# Altium footprint library breakout_board.PcbLib: 29 footprints (part 1 of 2)
Each footprint in its own frame and in the unit in brackets; x right, y up, seen from the top. Pads: shape width x height; smd on the part's side, far side on the other; paste and mask are expansions set on the pad; w line width, h text height; cw(c..) or ccw(c..) is an arc to the next point about the centre after c.
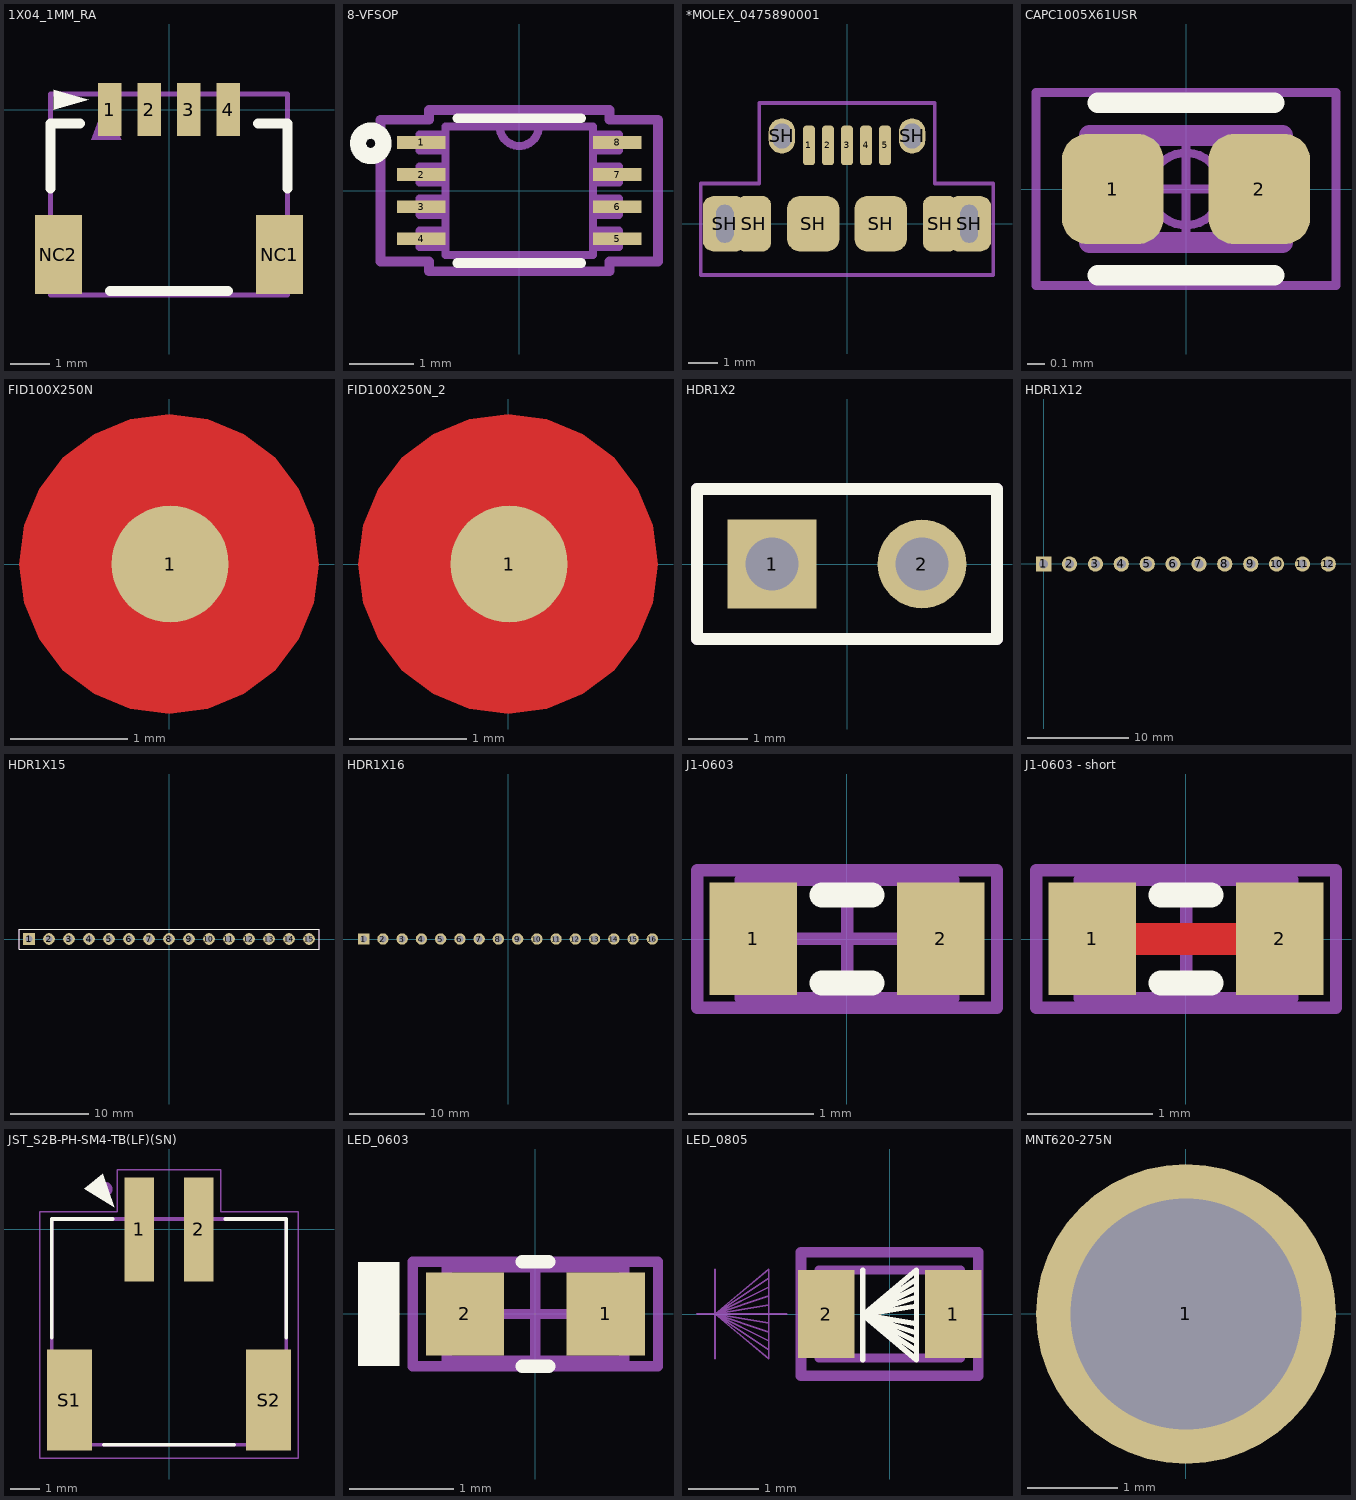
[diagram p0: the footprints below, top view; thin cyan lines are the x and y axes]

## 1X04_1MM_RA [mm] "1X04_1MM_RA"
pads (6):
  rect 0.6x1.35 smd: 1(-1.5,0) 2(-0.5,0) 3(0.5,0) 4(1.5,0)
  rect 1.2x2 smd: NC1(2.8,-3.675) NC2(-2.8,-3.675)
Top Overlay:
  region: -2.032,0.254 -2.921,0.508 -2.921,0
  lines w0.254: -3,-2 -3,-0.35 -2.25,-0.35 ; -1.5,-4.6 1.5,-4.6 ; 2.25,-0.35 3,-0.35 3,-2
Mechanical 16:
  region: -1.587,0.254 -1.968,-0.762 -1.206,-0.762
  lines w0.127: -3,-4.7 3,-4.7 3,0.4 -3,0.4 -3,-4.7
  text ".Designator" at -0.389,-2.52 h1.02
3D body "SM04B-SRSS-TB(LF)(SN)--3DModel-STEP-56544.STEP": height 3.25, standoff 0.3, extent -3,-4.615 3,0.335

## 8-VFSOP [mm]
pads (8):
  rect 0.756x0.199 smd paste+0 mask+0: 1(-1.528,0.75) 2(-1.528,0.25) 3(-1.528,-0.25) 4(-1.528,-0.75) 5(1.528,-0.75) 6(1.528,-0.25) 7(1.528,0.25) 8(1.528,0.75)
Top Overlay:
  circle w0.254: c-2.311,0.737 r0.198
  lines w0.152: -0.966,-1.127 0.966,-1.127 ; -0.966,1.127 0.966,1.127
Mechanical 15:
  lines w0.152: -2.16,-1.104 -1.404,-1.104 -1.404,-1.254 1.404,-1.254 1.404,-1.104 2.16,-1.104 2.16,1.104 1.404,1.104 1.404,1.254 -1.404,1.254 -1.404,1.104 -2.16,1.104 -2.16,-1.104
Mechanical 16:
  lines w0.127: -0.305,1 ccw(c0,1) 0.305,1 ; -1.55,-0.875 -1.15,-0.875 -1.15,-0.625 -1.55,-0.625 -1.55,-0.875 ; -1.55,-0.375 -1.15,-0.375 -1.15,-0.125 -1.55,-0.125 -1.55,-0.375 ; -1.55,0.125 -1.15,0.125 -1.15,0.375 -1.55,0.375 -1.55,0.125 ; -1.55,0.625 -1.15,0.625 -1.15,0.875 -1.55,0.875 -1.55,0.625 ; -1.15,-1 -1.15,1 1.15,1 1.15,-1 -1.15,-1 ; 1.15,-0.875 1.55,-0.875 1.55,-0.625 1.15,-0.625 1.15,-0.875 ; 1.15,-0.375 1.55,-0.375 1.55,-0.125 1.15,-0.125 1.15,-0.375 ; 1.15,0.125 1.55,0.125 1.55,0.375 1.15,0.375 1.15,0.125 ; 1.15,0.625 1.55,0.625 1.55,0.875 1.15,0.875 1.15,0.625
  text ".Designator" at -0.345,-0.488 h1.52
3D body "US8_z90.stp": height 0.75, standoff 0, extent -1.55,-1 1.55,1

## *MOLEX_0475890001 [mm]
pads (13):
  rrect50% 0.4x1.35 smd mask+0.051: 1(-1.3,2.675) 2(-0.65,2.675) 3(0,2.675) 4(0.65,2.675) 5(1.3,2.675)
  rrect50% 1.5x1.9 hole 0.6 slot 1.3 at 90 deg: SH(-4.175,0) SH(4.175,0)
  rrect50% 1.175x1.9 smd: SH(-3.187,0) SH(3.187,0)
  oval 0.9x1.2 hole 0.65 slot 0.85 at 90 deg: SH(-2.225,3) SH(2.225,3)
  rrect50% 1.8x1.9 smd: SH(-1.15,0) SH(1.15,0)
Mechanical 16:
  lines w0.127: -5,-1.75 -5,1.375 -3,1.375 -3,4.125 3,4.125 3,1.375 5,1.375 5,-1.75 -5,-1.75
  text ".Designator" at -1.524,-0.33 h1.5
3D body "475890001.stp": height 2.74, standoff -0.57, extent -4.325,-2.719 4.325,3.175

## CAPC1005X61USR [mm] "Capacitor, Chip; 1.016 mm L X 0.508 mm W X 0.61 mm H body"
height 0.61
pads (2):
  rrect51% 0.59x0.64 smd: 1(-0.425,0) 2(0.425,0)
Top Overlay:
  lines w0.12: -0.51,-0.5 0.51,-0.5 ; -0.51,0.5 0.51,0.5
Mechanical 15:
  circle w0.05: c0,0 r0.21
  lines w0.05: -0.28,0 0.28,0 ; 0,-0.28 0,0.28 ; -0.87,-0.56 0.87,-0.56 0.87,0.56 -0.87,0.56 -0.87,-0.56
Mechanical 16:
  lines w0.12: -0.56,-0.31 0.56,-0.31 0.56,0.31 -0.56,0.31 -0.56,-0.31
  text ".Designator" at 0.911,-0.474 h1.52
3D body "CAPC1005X61USR.STEP": height 0.61, standoff 0, extent -0.508,-0.254 0.508,0.254

## FID100X250N [mm]
pads (1):
  round 1 smd paste-0.5 mask+0.75: 1(0.01,0)
Top Layer:
  pour cut-out: 1.281,0 1.237,0.332 1.109,0.64 0.906,0.906 0.64,1.109 0.332,1.237 0,1.281 -0.332,1.237 -0.64,1.109 -0.906,0.906 -1.109,0.64 -1.237,0.332 -1.281,0 -1.237,-0.332 -1.109,-0.64 -0.906,-0.906 -0.64,-1.109 -0.332,-1.237 0,-1.281 0.332,-1.237 0.64,-1.109 0.906,-0.906 1.109,-0.64 1.237,-0.332

## FID100X250N_2 [mm]
pads (1):
  round 1 smd paste-0.5 mask+0.75: 1(0.01,0)
Top Layer:
  pour cut-out: 1.281,0 1.237,0.332 1.109,0.64 0.906,0.906 0.64,1.109 0.332,1.237 0,1.281 -0.332,1.237 -0.64,1.109 -0.906,0.906 -1.109,0.64 -1.237,0.332 -1.281,0 -1.237,-0.332 -1.109,-0.64 -0.906,-0.906 -0.64,-1.109 -0.332,-1.237 0,-1.281 0.332,-1.237 0.64,-1.109 0.906,-0.906 1.109,-0.64 1.237,-0.332

## HDR1X2 [mm] "Connector; Header; 2 Position"
pads (2):
  rect 1.5x1.5 hole 0.9: 1(-1.27,0)
  round 1.5 hole 0.9: 2(1.27,0)
Top Overlay:
  lines w0.2: -2.54,-1.27 2.54,-1.27 2.54,1.27 -2.54,1.27 -2.54,-1.27
Mechanical 16:
  lines w0.2: -2.54,-1.27 -2.54,1.27 2.54,1.27 2.54,-1.27 -2.54,-1.27
  text ".Designator" at -1.428,-0.38 h1.27
3D body "Download_STP_61300211121 (rev1).stp": height 8.57, standoff -2.97, extent -2.514,-1.321 2.566,1.219

## HDR1X12 [mm] "Connector; Header; 12 Position"
pads (12):
  rect 1.5x1.5 hole 0.9: 1(0,0)
  round 1.5 hole 0.9: 2(2.54,0) 3(5.08,0) 4(7.62,0) 5(10.16,0) 6(12.7,0) 7(15.24,0) 8(17.78,0) 9(20.32,0) 10(22.86,0) 11(25.4,0) 12(27.94,0)

## HDR1X15 [mm] "Connector; Header; 15 Position"
pads (15):
  rect 1.5x1.5 hole 0.9: 1(-17.78,0)
  round 1.5 hole 0.9: 2(-15.24,0) 3(-12.7,0) 4(-10.16,0) 5(-7.62,0) 6(-5.08,0) 7(-2.54,0) 8(0,0) 9(2.54,0) 10(5.08,0) 11(7.62,0) 12(10.16,0) 13(12.7,0) 14(15.24,0) 15(17.78,0)
Top Overlay:
  lines w0.127: -19.05,-1.27 -19.05,1.27 -17.145,1.27 19.05,1.27 19.05,-1.27 -19.05,-1.27
Mechanical 16:
  lines w0.127: -19.05,-1.27 19.05,-1.27 19.05,1.27 -17.145,1.27 -19.05,1.27 -19.05,-1.27
  text ".Designator" at -3.46,-0.253 h1.27
3D body "PREC015SFAN-RC.STEP": height 10.62, standoff -3.05, extent -19.05,-1.267 19.05,1.273

## HDR1X16 [mm] "Connector; Header; 16 Position"
pads (16):
  rect 1.5x1.5 hole 0.9: 1(-19.05,0)
  round 1.5 hole 0.9: 2(-16.51,0) 3(-13.97,0) 4(-11.43,0) 5(-8.89,0) 6(-6.35,0) 7(-3.81,0) 8(-1.27,0) 9(1.27,0) 10(3.81,0) 11(6.35,0) 12(8.89,0) 13(11.43,0) 14(13.97,0) 15(16.51,0) 16(19.05,0)

## J1-0603 [mm] "Chip Resistor, Body 1.6x0.8mm, IPC High Density"
height 0.9
pads (2):
  rect 0.7x0.9 smd: 1(-0.75,0) 2(0.75,0)
Top Overlay:
  lines w0.2: -0.2,-0.35 0.2,-0.35 ; -0.2,0.35 0.2,0.35
Mechanical 13:
  lines w0.1: -0.85,-0.475 -0.85,0.475 0.85,0.475 0.85,-0.475 -0.85,-0.475
Mechanical 15:
  lines w0.1: -0.475,0 0.475,0 ; 0,-0.475 0,0.475 ; -1.2,-0.55 -1.2,0.55 1.2,0.55 1.2,-0.55 -1.2,-0.55
3D body: height 0.9, standoff 0, extent -0.85,-0.475 0.85,0.475

## J1-0603 - short [mm] "Chip Resistor, Body 1.6x0.8mm, IPC High Density"
height 0.9
pads (2):
  rect 0.7x0.9 smd: 1(-0.75,0) 2(0.75,0)
Top Layer:
  lines w0.254: -0.75,0 0.75,0
Top Overlay:
  lines w0.2: -0.2,-0.35 0.2,-0.35 ; -0.2,0.35 0.2,0.35
Mechanical 13:
  lines w0.1: -0.85,-0.475 -0.85,0.475 0.85,0.475 0.85,-0.475 -0.85,-0.475
Mechanical 15:
  lines w0.1: -0.475,0 0.475,0 ; 0,-0.475 0,0.475 ; -1.2,-0.55 -1.2,0.55 1.2,0.55 1.2,-0.55 -1.2,-0.55
3D body: height 0.9, standoff 0, extent -0.85,-0.475 0.85,0.475

## JST_S2B-PH-SM4-TB(LF)(SN) [mm]
pads (4):
  rect 1x3.5 smd: 1(-1,0) 2(1,0)
  rect 1.5x3.4 smd: S1(-3.35,-5.75) S2(3.35,-5.75)
Top Overlay:
  region: -1.841,0.737 -2.222,1.88 -2.857,1.372
  lines w0.127: -3.95,-3.65 -3.95,0.35 -1.9,0.35 ; -2.2,-7.25 2.2,-7.25 ; 1.9,0.35 3.95,0.35 3.95,-3.65
Mechanical 15:
  lines w0.05: -4.35,-7.7 -4.35,0.6 -1.75,0.6 -1.75,2 1.75,2 1.75,0.6 4.35,0.6 4.35,-7.7 -4.35,-7.7
Mechanical 16:
  circle w0.3: c-2.15,1.35 r0.1
  lines w0.127: -3.95,-7.25 -3.95,0.35 3.95,0.35 3.95,-7.25 -3.95,-7.25
  text ".Designator" at -0.231,-0.944 h1.52
3D body "S2B-PH-SM4-TB(LF)(SN)--3DModel-STEP-56544.STEP": height 5.58, standoff -0.02, extent -3.95,-7.239 3.95,1.361

## LED_0603 [mm]
pads (2):
  rect 0.75x0.8 smd: 1(0.675,0) 2(-0.675,0)
Top Overlay:
  rectangle: -1.7,-0.5 -1.3,0.5
  lines w0.127: -0.127,-0.5 0.127,-0.5 ; -0.127,0.5 0.127,0.5
Mechanical 13:
  lines w0.1: -0.85,-0.45 -0.85,0.45 0.85,0.45 0.85,-0.45 -0.85,-0.45
  text ".Designator" at 1.397,-0.381 h0.76
Mechanical 15:
  lines w0.1: -0.45,0 0.45,0 ; 0,-0.45 0,0.45 ; -1.175,-0.5 1.175,-0.5 1.175,0.5 -1.175,0.5 -1.175,-0.5
3D body "APT1608.STEP": height 0.63, standoff -0.13, extent -0.806,-0.4 0.805,0.4
3D body "LED SMD 0603.step": height 0.6, standoff 0, extent -0.8,-0.4 0.8,0.4

## LED_0805 [mm]
pads (2):
  rect 0.8x1.245 smd paste+0 mask+0: 1(0.9,0) 2(-0.9,0)
Top Overlay:
  lines w0.076: -0.381,-0.648 -0.381,0.622 ; 0.381,-0.521 -0.381,-0.013 ; 0.381,-0.394 -0.381,-0.013 ; 0.381,-0.267 -0.381,-0.013 ; 0.381,-0.14 -0.381,-0.013 ; 0.381,0.114 -0.381,-0.013 ; 0.381,0.241 -0.381,-0.013 ; 0.381,0.368 -0.381,-0.013 ; 0.381,0.495 -0.381,-0.013 ; -0.381,-0.013 0.381,-0.648 0.381,0.622 -0.381,-0.013
Mechanical 13:
  lines w0.025: -2.73,0 -1.46,0 ; -2.476,-0.635 -2.476,0.635 ; -1.714,-0.508 -2.476,0 ; -1.714,-0.381 -2.476,0 ; -1.714,-0.254 -2.476,0 ; -1.714,-0.127 -2.476,0 ; -1.714,0.127 -2.476,0 ; -1.714,0.254 -2.476,0 ; -1.714,0.381 -2.476,0 ; -1.714,0.508 -2.476,0 ; -2.476,0 -1.714,0.635 -1.714,-0.635 -2.476,0
Mechanical 15:
  lines w0.152: -1.257,-0.876 1.257,-0.876 1.257,0.876 -1.257,0.876 -1.257,-0.876
Mechanical 16:
  lines w0.127: -1.003,-0.622 1.003,-0.622 1.003,0.622 -1.003,0.622 -1.003,-0.622
  text ".Designator" at -0.168,-0.107 h0.3
3D body "APT2012.STEP": height 0.75, standoff 0, extent -1,-0.625 1,0.625

## MNT620-275N [mil]
pads (1):
  round 130 hole 100: 1(0,0)